# EAGLE library part SAMD11D14A (library atmel-samd)
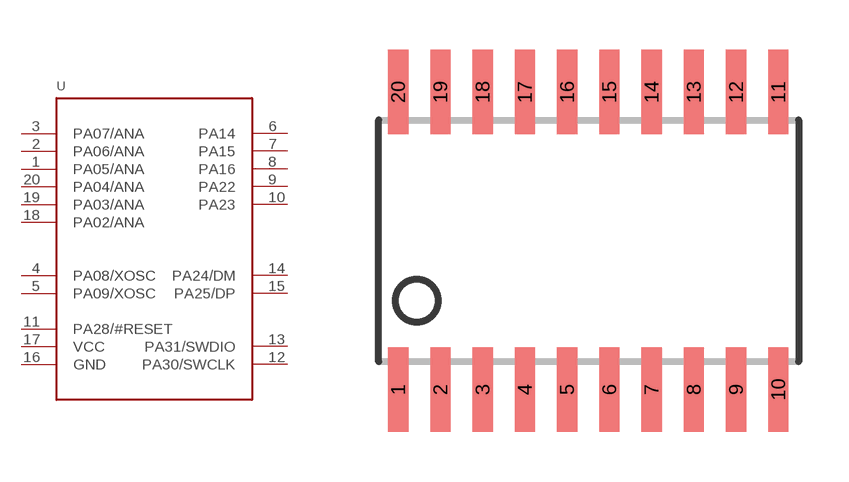
[diagram p0: symbol with the pads of SOIC20L; footprint SOIC20L]

Designator prefix -

## SAMD11D14A  [SOIC20L]
1  PA05/ANA
2  PA06/ANA
3  PA07/ANA
4  PA08/XOSC
5  PA09/XOSC
6  PA14
7  PA15
8  PA16
9  PA22
10  PA23
11  PA28/#RESET
12  PA30/SWCLK
13  PA31/SWDIO
14  PA24/DM
15  PA25/DP
16  GND  pwr
17  VCC  pwr
18  PA02/ANA
19  PA03/ANA
20  PA04/ANA

## Footprint SOIC20L (pad centres in mm)
SMALL OUTLINE PACKAGE 12.8 x 10.3 Source: http://www.lsicsi.com/pdfs/Drawings/SOIC%20Outline%20Dwgs.pdf
smd 0.61 x 2.54: 1 -5.715,-4.475; 2 -4.445,-4.475; 3 -3.175,-4.475; 4 -1.905,-4.475; 5 -0.635,-4.475; 6 0.635,-4.475; 7 1.905,-4.475; 8 3.175,-4.475; 9 4.445,-4.475; 10 5.715,-4.475; 11 5.715,4.475; 12 4.445,4.475; 13 3.175,4.475; 14 1.905,4.475; 15 0.635,4.475; 16 -0.635,4.475; 17 -1.905,4.475; 18 -3.175,4.475; 19 -4.445,4.475; 20 -5.715,4.475